# EAGLE library part 74VHC74M (library zl2avf)
Dual SOIC D-type flip-flop (170MHz)
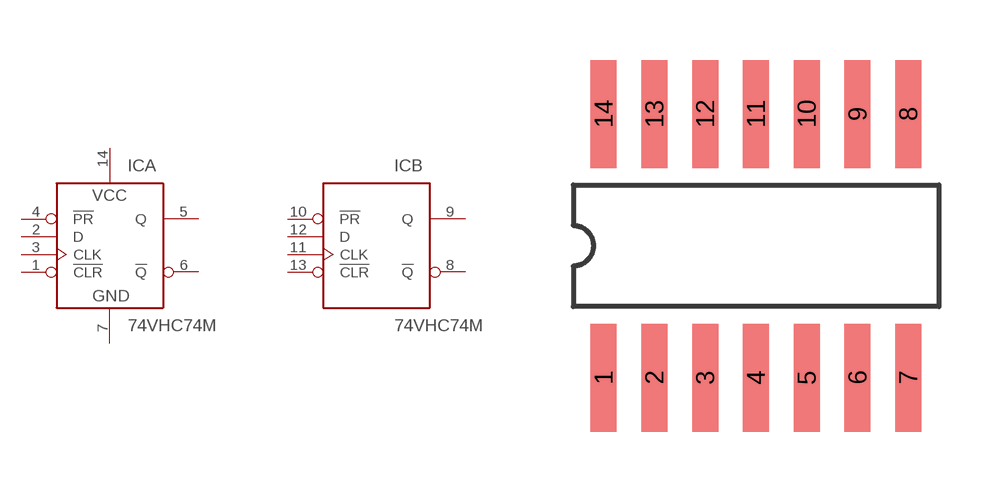
[diagram p0: symbol with the pads of SOIC-14PIN; footprint SOIC-14PIN]

Designator prefix IC; gates A=D-FLIPFLOP-PWR B=D-FLIPFLOP

## 74VHC74M  [SOIC-14PIN]
1  A:!CLR  in
2  A:D  in
3  A:CLK  in
4  A:!PR  in
5  A:Q  out
6  A:!Q  out
7  A:GND  pwr
8  B:!Q  out
9  B:Q  out
10  B:!PR  in
11  B:CLK  in
12  B:D  in
13  B:!CLR  in
14  A:VCC  pwr

## Footprint SOIC-14PIN (pad centres in mm)
SOIC-14pin 1mm added to the length of each pin for hand-soldering
smd 0.65 x 2.7: 1 -3.81,-3.3; 2 -2.54,-3.3; 3 -1.27,-3.3; 4 0,-3.3; 5 1.27,-3.3; 6 2.54,-3.3; 7 3.81,-3.3; 8 3.81,3.3; 9 2.54,3.3; 10 1.27,3.3; 11 0,3.3; 12 -1.27,3.3; 13 -2.54,3.3; 14 -3.81,3.3